# Altium schematic symbol library RTCs.SchLib: 1 symbol
Pins are listed as number, name and electrical type; pins without a type are passive.

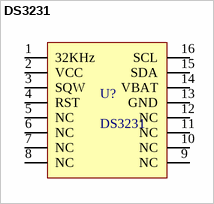
[diagram p0: symbol DS3231]

## DS3231
designator U?
footprint SOIC-16-W
pins: 1 32KHz, 2 VCC, 3 SQW, 4 RST, 5 NC, 6 NC, 7 NC, 8 NC, 9 NC, 10 NC, 11 NC, 12 NC, 13 GND, 14 VBAT, 15 SDA, 16 SCL